# Altium integrated library Linear Technology Power Management Switching Regulator LTC1174-LTC3901.IntLib: 2647 symbols (part 175 of 364)
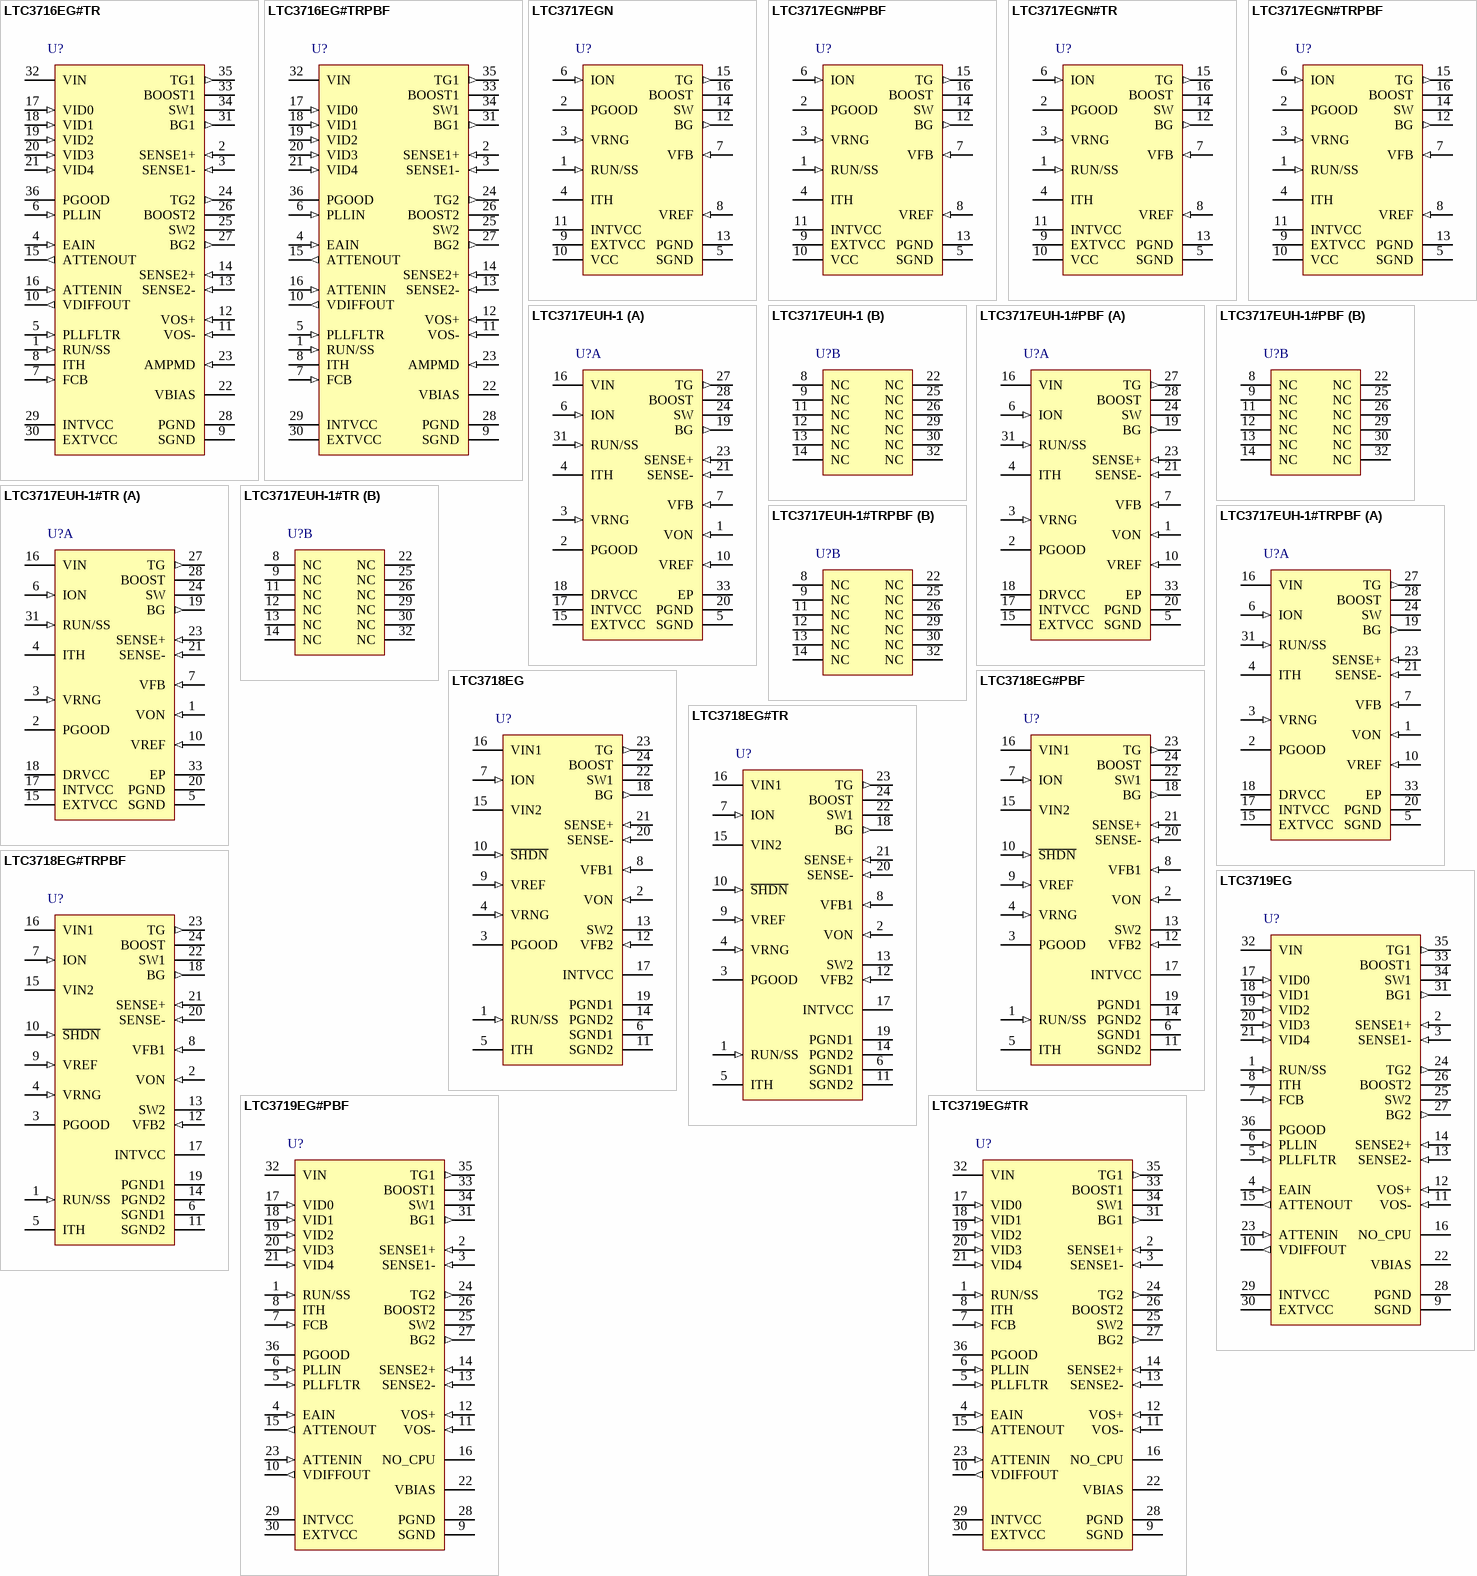
[diagram p304: symbols LTC3716EG#TR to LTC3719EG#TR]

## LTC3718EG
designator U?
Bus Termination: QDR, DDR, SSTL Very Low Input Voltage Provide Its Own N-Channel MOSFET Gate Drive, 24-pin SOP (G-24), -40 to 85 degC; Manufacturer: Linear Technology; PartNumber: LTC3718EG; Number of Outputs: 1; DatasheetVersion: Rev. A; PackageVersion: Jun-10; PackageReference: G-24; PackageDescription: 24-Pin Plastic SSOP, Body 8.2 x 5.3 mm, Pitch 0.65 mm; Supplier 1: Digi-Key; Supplier Part Number 1: LTC3718EG-ND; RoHS: FALSE; Mounting Technology: Surface Mount; ComponentLink1Description: Manufacturer URL; ComponentLink1URL: http://www.linear.com/; ComponentLink2Description: Datasheet; ComponentLink2URL: http://cds.linear.com/docs/en/datasheet/3718fa.pdf; ComponentLink3Description: Package Specification; ComponentLink3URL: http://cds.linear.com/docs/en/packaging/SSOP_24_05-08-1640.pdf
footprint LT-G-24_N (SOP, 24-Leads, Body 8.5x5.6mm, Pitch 0.65mm, IPC Medium Density)
footprint LT-G-24_L (SOP, 24-Leads, Body 8.5x5.6mm, Pitch 0.65mm, IPC High Density)
footprint LT-G-24_M (SOP, 24-Leads, Body 8.5x5.6mm, Pitch 0.65mm, IPC Low Density)
pins: 1 RUN/SS (in) "Run Control and Soft-Start Input. A capacitor to ground at this pin sets the ramp time to full output current (approximately 3s/uF) and the time delay for overcurrent latchoff (see Applications Information). Forcing this pin (See Datasheet)", 2 VON (in) "On-Time Voltage Input. Voltage trip point for the on-time comparator. Tying this pin to the output voltage makes the on-time proportional to VOUT. The comparator input defaults to 0.7V when the pin is grounded, 2.4V when the (See Datasheet)", 3 PGOOD (oc) "Power Good Output. Open-drain logic output that is pulled to ground when the output voltage of the buck section is not within +/-10% of the regulation point.", 4 VRNG (in) "Sense Voltage Range Input. The voltage at this pin is ten times the nominal sense voltage at maximum output current and can be set from 0.5V to 2V by a resistive divider from INTVCC. The nominal sense voltage defaults to (See Datasheet)", 5 ITH "Current Control Threshold and Error Amplifier Compensation Point. The current comparator threshold increases with this control voltage. The voltage ranges from 0V to 2.4V with 1.2V corresponding to zero sense voltage (zero (See Datasheet)", 6 SGND1 (power) "Signal Ground. All small-signal components and compensation components should connect to this ground, which in turn connects to PGND at one point.", 7 ION (in) "On-Time Current Input. Tie a resistor from VIN to this pin to set the one-shot timer current and thereby set the switching frequency.", 8 VFB1 (in) "Error Amplifier Feedback Input. This pin connects the negative error amplifier input to VOUT.", 9 VREF (in) "Positive Input of Internal Error Amplifier. Reference voltage for output voltage, power good threshold, and short-circuit shutdown threshold. The output voltage is set to VREF/2.", 10 ~{SHDN} (in) "Shutdown, Active Low. Tie to 1V or more to enable boost converter portion of the LTC3718. Ground to shut down.", 11 SGND2 (power) "Signal Ground. All small-signal components and compensation components should connect to this ground, which in turn connects to PGND at one point.", 12 VFB2 (in) "Boost Converter Feedback. The VFB2 pin is connected to INTVCC through a resistor divider to set the voltage on INTVCC. Set INTVCC voltage according to: VINTVCC = 1.23V(1 + RF2/RF1)", 13 SW2 (power) "Boost Converter Switch Pin. Connect inductor/diode for boost converter portion here. Minimize trace area at this pin to keep EMI down.", 14 PGND2 (power) "Power Ground. Connect these pins closely to the source of the bottom N-channel MOSFET, the (-) terminal of CVCC and the (-) terminal of CIN.", 15 VIN2 (power) "Input Supply Pin for Boost Converter Portion of LTC3718. Must be locally bypassed.", 16 VIN1 (power) "Main Input Supply. Decouple this pin to PGND with at least a 1uF ceramic capacitor.", 17 INTVCC (power) "Internal Regulator Output. The driver and control circuits are powered from this voltage when VIN is greater than 5V. Decouple this pin to power ground with a minimum of 4.7uF low ESR tantalum or ceramic capacitor.", 18 BG (out) "Bottom Gate Drive. Drives the gate of the bottom N-channel MOSFET between ground and INTVCC.", 19 PGND1 (power) "Power Ground. Connect these pins closely to the source of the bottom N-channel MOSFET, the (-) terminal of CVCC and the (-) terminal of CIN.", 20 SENSE- (in) "Negative Current Sense Comparator Input. The (-) input to the current comparator is normally connected to power ground unless using a resistive divider from INTVCC (see Applications Information).", 21 SENSE+ (in) "Positive Current Sense Comparator Input. The (+) input to the current comparator is normally connected to the SW node unless using a sense resistor (see Applications Information).", 22 SW1 "Switch Node. The (-) terminal of the bootstrap capacitor CB connects here. This pin swings from a diode voltage drop below ground up to VIN.", 23 TG (out) "Top Gate Drive. Drives the top N-channel MOSFET with a voltage swing equal to INTVCC superimposed on the switch node voltage SW.", 24 BOOST "Boosted Floating Driver Supply. The (+) terminal of the bootstrap capacitor CB connects here. This pin swings from a diode voltage drop below INTVCC up to VIN + INTVCC."